# Altium schematic symbol library R-CRCW06034K70JNEA.Schlib: 1 symbol
Pins are listed as number, name and electrical type; pins without a type are passive.

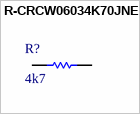
[diagram p0: symbol R-CRCW06034K70JNEA]

## R-CRCW06034K70JNEA
designator R?, comment 4k7
Thick Film Resistors - SMD 1/10watt 4.7Kohms 5%
pins: 1, 2